# Altium footprint library SAMTEC_USB-AM-S-X-X-TH.PcbLib: 1 footprints
Each footprint in its own frame and in the unit in brackets; x right, y up, seen from the top. Pads: shape width x height; smd on the part's side, far side on the other; paste and mask are expansions set on the pad; w line width, h text height; cw(c..) or ccw(c..) is an arc to the next point about the centre after c.
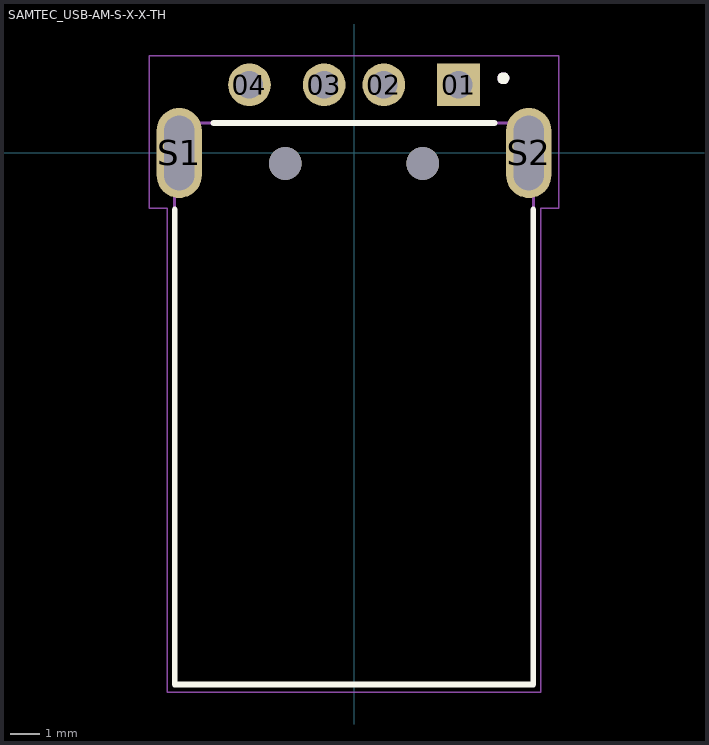
[diagram p0: the footprint, top view; thin cyan lines are the x and y axes]

## SAMTEC_USB-AM-S-X-X-TH [mm]
height 4.6
pads (8):
  rect 1.428x1.428 / inner round 1.428 / far side rect 1.428x1.428 hole 0.92: 01(3.5,2.28)
  round 1.428 hole 0.92: 02(1,2.28) 03(-1,2.28) 04(-3.5,2.28)
  oval 1.508x3.016 hole 1 slot 2.5 at 90 deg: S1(-5.85,0) S2(5.85,0)
  round 1.1 hole 1.1 unplated: ""(-2.3,-0.35) ""(2.3,-0.35)
Top Overlay:
  circle w0.2: c5,2.5 r0.1
  lines w0.2: -6,-1.9 -6,-17.8 6,-17.8 6,-1.9 ; -4.7,1 4.7,1
Mechanical 13:
  circle w0.2: c5,2.5 r0.1
  lines w0.1: -6,-17.8 6,-17.8 6,1 -6,1 -6,-17.8
Mechanical 15:
  lines w0.05: -6.855,-1.86 -6.25,-1.86 -6.25,-18.05 6.25,-18.05 6.25,-1.86 6.855,-1.86 6.855,3.25 -6.855,3.25 -6.855,-1.86
3D body "USB-AM-S-S-W-TH-R.stp": height 4.5, standoff -1.39, extent -6.35,-17.782 6.35,2.418